# Altium schematic symbol library Reference_Connectors.SchLib: 3 symbols
Pins are listed as number, name and electrical type; pins without a type are passive.

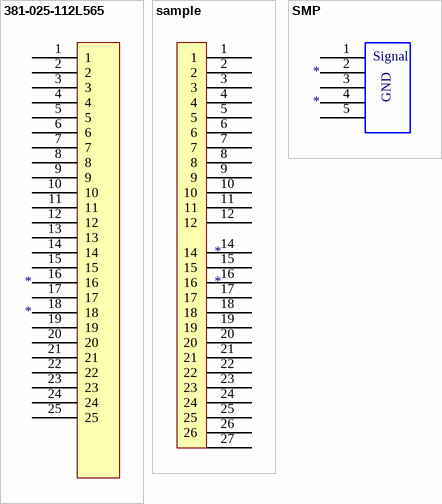
[diagram p0: symbols 381-025-112L565 to SMP]

## 381-025-112L565
designator *
Conn D-Subminiature M 25 POS 1.27mm Solder RA Thru-Hole 25 Terminal 1 Port; Manufacturer: NorComp; Manufacturer Part Number: 381-025-112L565; Plating: Copper,Tin; Dielectric Material: Thermoplastic; Gender: Male; Current Rating: 1A; Number of Positions: 25; Connector Type: Plug; Insulation: Insulated; Supplier 1: Newark; RoHS: Yes; Category: D-Sub Connectors; Stock 1: 412; Pricing 1: 1=46.74000, 10=42.19000, 100=36.63000, 500=33.60000, 1000=32.85000 (CAD); Mounting Technology: Through Hole,Edge,Board; Contact Plating: Gold; Housing Material: Thermoplastic; Shell Size: 25; Contact Material: Copper Alloy; Shell Material: Steel; Insulation Material: Thermoplastic; Min Operating Temperature: -55°C; Max Operating Temperature: 85°C; Packaging: Rail/Tube; Package Quantity: 19; Number of Rows: 2; Termination: Through Hole; Number of Contacts: 25; Features: Shielded; Series: Micro-D 381; Contact Type: Signal; Pitch: 1.27mm; Reach SVHC Compliant: Yes; RoHS Compliant: Yes; Flammability Rating: UL94 V-0; ComponentLink1URL: https://datasheet.ciiva.com/657/381-025-112l565-657513.pdf?src-supplier=Digi-Key; ComponentLink1Description: https://datasheet.ciiva.com/657/381-025-112l565-657513.pdf?src-supplier=Digi-Key; ComponentLink2URL: https://datasheet.ciiva.com/8022/1633176-8022059.pdf?src-supplier=Element14; ComponentLink2Description: https://datasheet.ciiva.com/8022/1633176-8022059.pdf?src-supplier=Element14; Supplier Part Number 1: 07W6463
footprint 581-M25-113L461 (CONN MICRO-D MALE 25P RA)
pins: 1, 2, 3, 4, 5, 6, 7, 8, 9, 10, 11, 12, 13, 14, 15, 16, 17, 18, 19, 20, 21, 22, 23, 24, 25

## sample
designator *
footprint sample
pins: 1, 2, 3, 4, 5, 6, 7, 8, 9, 10, 11, 12, 14, 15, 16, 17, 18, 19, 20, 21, 22, 23, 24, 25, 26, 27

## SMP
designator *
footprint RF_Con
pins: 1, 2, 3, 4, 5
text: Signal; GND